# EAGLE library part RFM69_MINIPADS (library myLib)
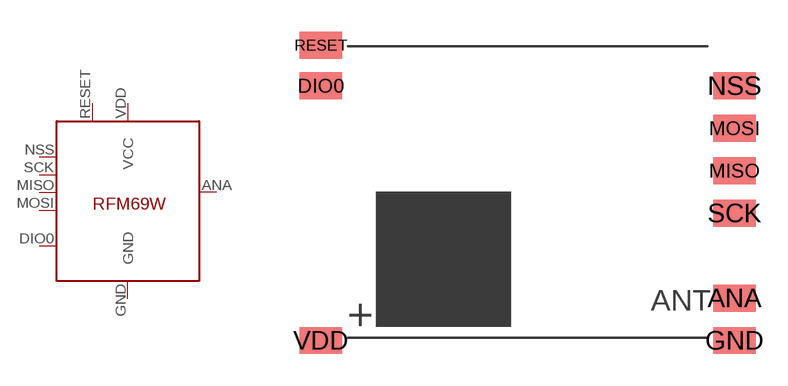
[diagram p1: symbol with the pads of RFM69W-MINPADS; footprint RFM69W-MINPADS]

Designator prefix -

## RFM69_MINIPADS  [RFM69W-MINPADS]
ANA  ANT  pas
DIO0  DIO0/IRQ  oc
GND  GND  pwr
MISO  MISO  in
MOSI  MOSI  out
NSS  SEL  in
RESET  RESET  in
SCK  SCK  in
VDD  VCC  pwr

## Footprint RFM69W-MINPADS (pad centres in mm)
smd 2 x 1.27: ANA 8,-5; DIO0 -11.5,5; GND 8,-7; MISO 8,1; MOSI 8,3; NSS 8,5; RESET -11.5,6.909; SCK 8,-1; VDD -11.5,-7